# EAGLE library part AQV252G (library PocketCube)
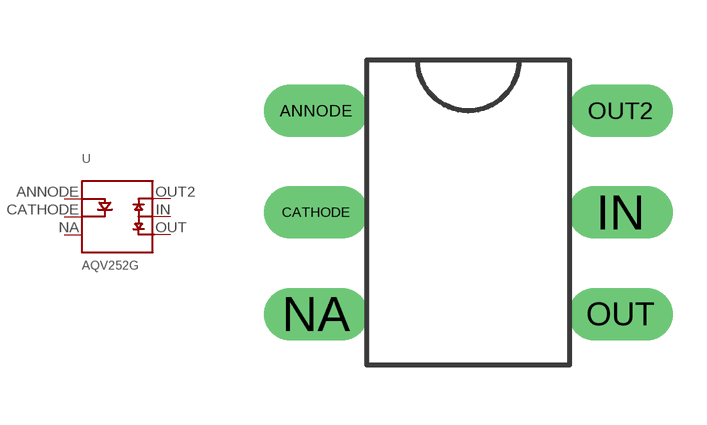
[diagram p0: symbol with the pads of AQV252G; footprint AQV252G]

Designator prefix -

## AQV252G  [AQV252G]
ANNODE  ANNODE
CATHODE  CATHODE
IN  5
NA  NA
OUT  4
OUT2  6

## Footprint AQV252G (pad centres in mm)
drill 0.8 long: ANNODE 0,0; CATHODE 0,-2.54; IN 7.62,-2.54; NA 0,-5.08; OUT 7.62,-5.08; OUT2 7.62,0